# Altium footprint library pin6headerF.PcbLib: 1 footprints
Each footprint in its own frame and in the unit in brackets; x right, y up, seen from the top. Pads: shape width x height; smd on the part's side, far side on the other; paste and mask are expansions set on the pad; w line width, h text height; cw(c..) or ccw(c..) is an arc to the next point about the centre after c.
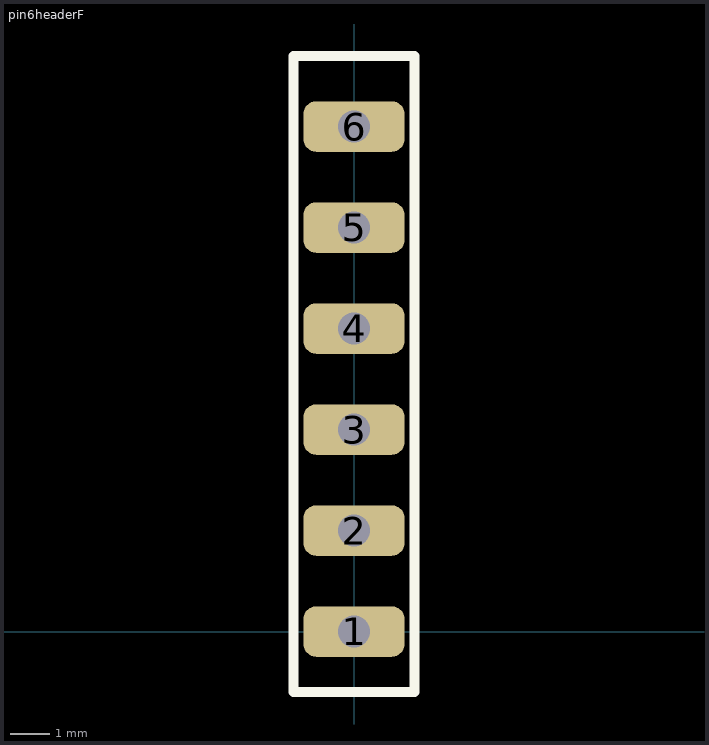
[diagram p0: the footprint, top view; thin cyan lines are the x and y axes]

## pin6headerF [mm]
pads (6):
  rrect50% 2.54x1.27 hole 0.8: 1(0,0) 2(0,2.54) 3(0,5.08) 4(0,7.62) 5(0,10.16) 6(0,12.7)
Top Overlay:
  lines w0.254: -1.524,-1.524 -1.524,14.478 1.524,14.478 1.524,-1.524 -1.524,-1.524
3D body "pin6headerF.STEP": height 8.5, standoff -3, extent -1.27,-1.288 1.27,14.22